# Altium schematic symbol library A767KS476M1JLAE036.SchLib: 1 symbol
Pins are listed as number, name and electrical type; pins without a type are passive.

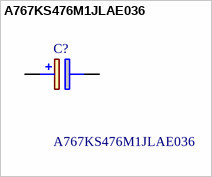
[diagram p0: symbol A767KS476M1JLAE036]

## A767KS476M1JLAE036
designator C?
Surface mount form factor  Ultra low impedance  High ripple current  High voltage  105C/2,000 hours  RoHS compliant  Halogen-free; Manufacturer_Name: KEMET; Geometry.Height: 12.5mm; Manufacturer_Part_Number: A767KS476M1JLAE036; Mouser Part Number: 80-A767KS476M1JLAE36; Mouser Price/Stock: https://www.mouser.co.uk/ProductDetail/KEMET/A767KS476M1JLAE036?qs=YCa%2FAAYMW03EOWyJElp5Ng%3D%3D; Arrow Part Number: A767KS476M1JLAE036; Arrow Price/Stock: https://www.arrow.com/en/products/a767ks476m1jlae036/kemet-corporation; Datasheet Link: https://www.mouser.se/datasheet/2/447/KEM_A4071_A767-3316693.pdf
footprint CAPAE830X1250N
pins: 1 +, 2 -